# EAGLE library part ADS1115 (library Pod3 Lib)
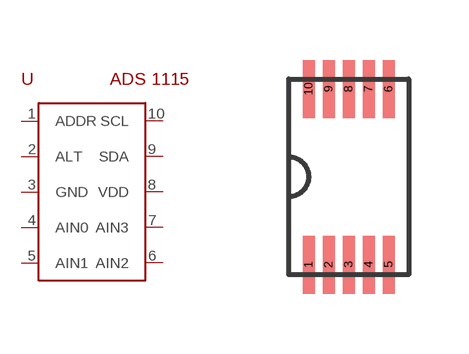
[diagram p1: symbol with the pads of ADS1115; footprint ADS1115]

Designator prefix -

## ADS1115  [ADS1115]
1  ADDR
2  ALT
3  GND
4  AIN0
5  AIN1
6  AIN2
7  AIN3
8  VDD
9  SDA
10  SCL

## Footprint ADS1115 (pad centres in mm)
smd 0.3 x 1.45: 1 -1,-2.2; 2 -0.5,-2.2; 3 0,-2.2; 4 0.5,-2.2; 5 1,-2.2; 6 1,2.2; 7 0.5,2.2; 8 0,2.2; 9 -0.5,2.2; 10 -1,2.2